# EAGLE library part SPX385AS-L-1-2 (library Exar_By_element14_Batch_1)
Micropower Voltage Reference
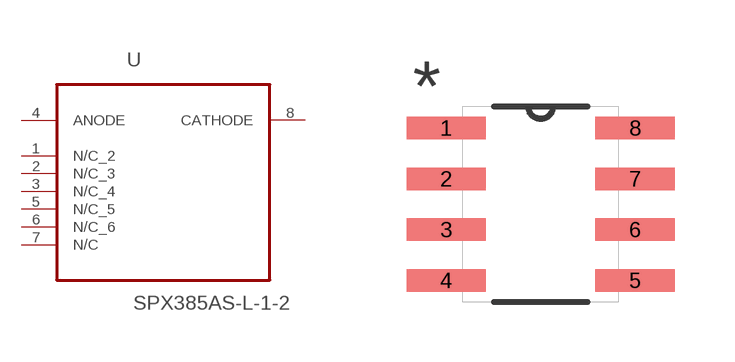
[diagram p61: symbol with the pads of SOIC127P600X175-8N; footprint SOIC127P600X175-8N]

Designator prefix U

## SPX385AS-L-1-2 (MPN: SPX385AS-L-1-2; OC_FARNELL: 1831952; OC_NEWARK: 84R4418; PACKAGE: SOIC-8; SUPPLIER: Exar)  [SOIC127P600X175-8N]
1  N/C_2  nc
2  N/C_3  nc
3  N/C_4  nc
4  ANODE  in
5  N/C_5  nc
6  N/C_6  nc
7  N/C  nc
8  CATHODE  out

## Footprint SOIC127P600X175-8N (pad centres in mm)
smd 1.981 x 0.559: 1 -2.362,1.905; 2 -2.362,0.635; 3 -2.362,-0.635; 4 -2.362,-1.905; 5 2.362,-1.905; 6 2.362,-0.635; 7 2.362,0.635; 8 2.362,1.905